# EAGLE library part SY55857 (library SKAARHOJ)
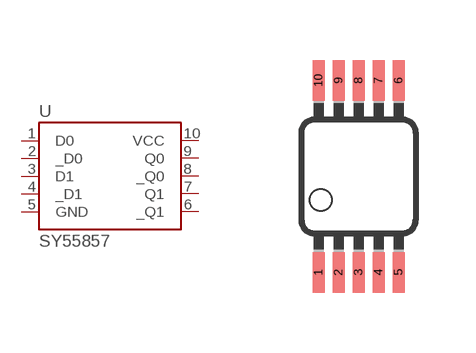
[diagram p46: symbol with the pads of MSOP10; footprint MSOP10]

Designator prefix -

## SY55857  [MSOP10]
1  D0  in
2  _D0  in
3  D1  in
4  _D1  in
5  GND  pwr
6  _Q1  out
7  Q1  out
8  _Q0  out
9  Q0  out
10  VCC  pwr

## Footprint MSOP10 (pad centres in mm)
10 Lead MSOP Package NS Package Number MUB10A Source: http://cache.national.com/ds/LM/LM5030.pdf
smd 0.3 x 1.02: 1 -1,-2.4; 2 -0.5,-2.4; 3 0,-2.4; 4 0.5,-2.4; 5 1,-2.4; 6 1,2.4; 7 0.5,2.4; 8 0,2.4; 9 -0.5,2.4; 10 -1,2.4